# EAGLE library part PULSAR_P3_DISPLAY (library pulsar_p3_display)
Vintage Pulsar P3 Display made by Litronix.
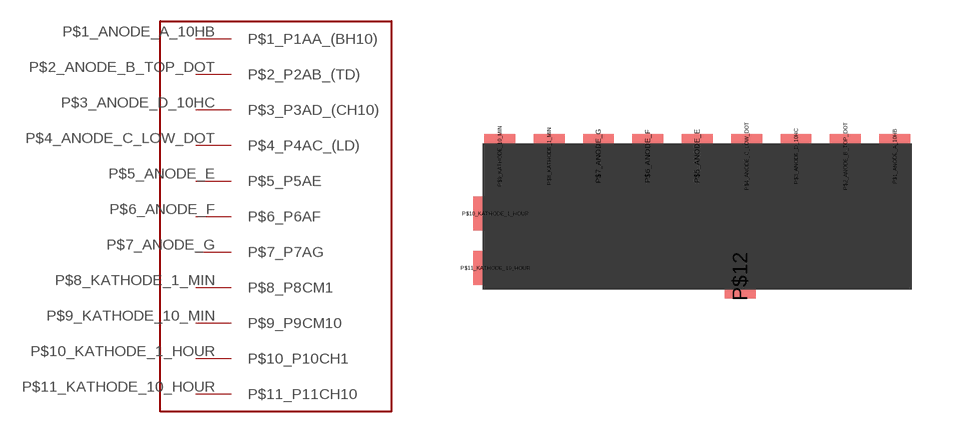
[diagram p0: symbol with the pads of PULSAR_P3_LED_DISPLAY; footprint PULSAR_P3_LED_DISPLAY]

Designator prefix -

## PULSAR_P3_DISPLAY  [PULSAR_P3_LED_DISPLAY]
P$1_ANODE_A_10HB  P$1_P1AA_(BH10)
P$2_ANODE_B_TOP_DOT  P$2_P2AB_(TD)
P$3_ANODE_D_10HC  P$3_P3AD_(CH10)
P$4_ANODE_C_LOW_DOT  P$4_P4AC_(LD)
P$5_ANODE_E  P$5_P5AE
P$6_ANODE_F  P$6_P6AF
P$7_ANODE_G  P$7_P7AG
P$8_KATHODE_1_MIN  P$8_P8CM1
P$9_KATHODE_10_MIN  P$9_P9CM10
P$10_KATHODE_1_HOUR  P$10_P10CH1
P$11_KATHODE_10_HOUR  P$11_P11CH10

## Footprint PULSAR_P3_LED_DISPLAY (pad centres in mm)
Pulsar P3 Display made by Litronix in '72.
smd 1.143 x 1.651: P$1_ANODE_A_10HB 15.24,4.921; P$2_ANODE_B_TOP_DOT 13.414,4.921; P$3_ANODE_D_10HC 11.589,4.921; P$4_ANODE_C_LOW_DOT 9.763,4.921; P$5_ANODE_E 7.938,4.921; P$6_ANODE_F 6.112,4.921; P$7_ANODE_G 4.286,4.921; P$8_KATHODE_1_MIN 2.461,4.921; P$9_KATHODE_10_MIN 0.635,4.921; P$12 9.525,0.476
smd 1.651 x 1.27: P$10_KATHODE_1_HOUR 0.476,2.8; P$11_KATHODE_10_HOUR 0.476,0.787